# Altium schematic symbol library MCP73831 Schematic.SchLib: 1 symbol
Pins are listed as number, name and electrical type; pins without a type are passive.

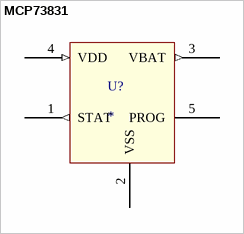
[diagram p0: symbol MCP73831]

## MCP73831
designator U?
Voltage regulator for Li-po or li-ion battery, USB compatible
footprint MCP73831
pins: 1 STAT (out), 2 VSS (power), 3 VBAT (out), 4 VDD (in), 5 PROG (power)